# Altium footprint library ASSMANN A-2004-2-4-LP_FS.PCBLIB: 1 footprints
Each footprint in its own frame and in the unit in brackets; x right, y up, seen from the top. Pads: shape width x height; smd on the part's side, far side on the other; paste and mask are expansions set on the pad; w line width, h text height; cw(c..) or ccw(c..) is an arc to the next point about the centre after c.
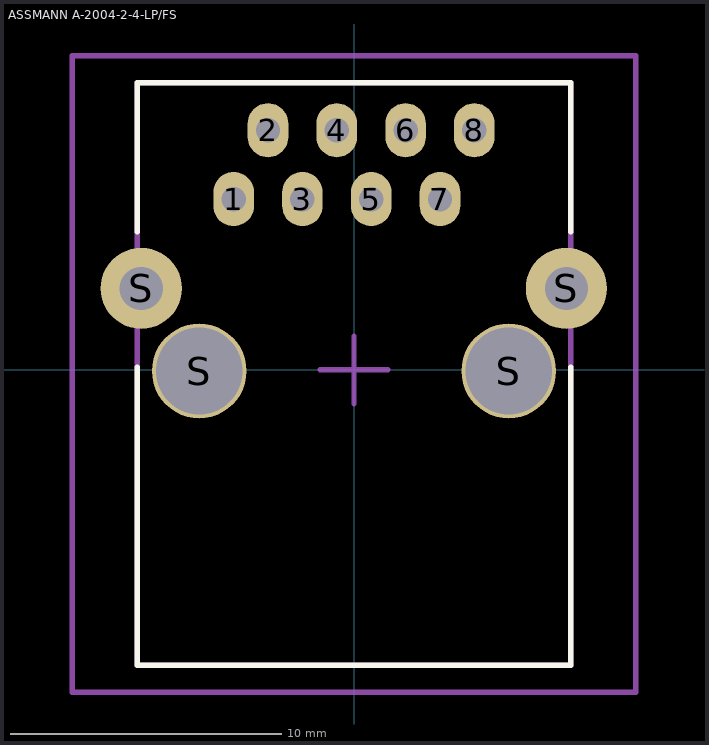
[diagram p0: the footprint, top view; thin cyan lines are the x and y axes]

## ASSMANN A-2004-2-4-LP/FS [mm]
height 13.3
pads (12):
  oval 1.5x2 hole 0.9: 1(-4.445,6.31) 2(-3.175,8.85) 3(-1.905,6.31) 4(-0.635,8.85) 5(0.635,6.31) 6(1.905,8.85) 7(3.175,6.31) 8(4.445,8.85)
  round 3 hole 1.6: S(-7.855,3.01) S(7.845,3.01)
  round 3.5 hole 3.2: S(-5.715,-0.04) S(5.715,-0.04)
Top Overlay:
  lines w0.2: -8,0.1 -8,-10.9 8,-10.9 8,0.1 ; -8,5.1 -8,10.6 8,10.6 8,5.1
Mechanical 1:
  lines w0.2: -8,-10.9 -8,10.6 8,10.6 8,-10.9 -8,-10.9
Mechanical 15:
  lines w0.2: -1.25,0 1.25,0 ; 0,-1.25 0,1.25 ; -10.4,-11.9 10.4,-11.9 10.4,11.6 -10.4,11.6 -10.4,-11.9
3D body "ASSMANN A-2004-2-4-LPFS-N-R.STEP": height 13.6, standoff -3.5, extent -8,-10.9 8,10.6